# Altium schematic symbol library MSP430.SchLib: 3 symbols
Pins are listed as number, name and electrical type; pins without a type are passive.

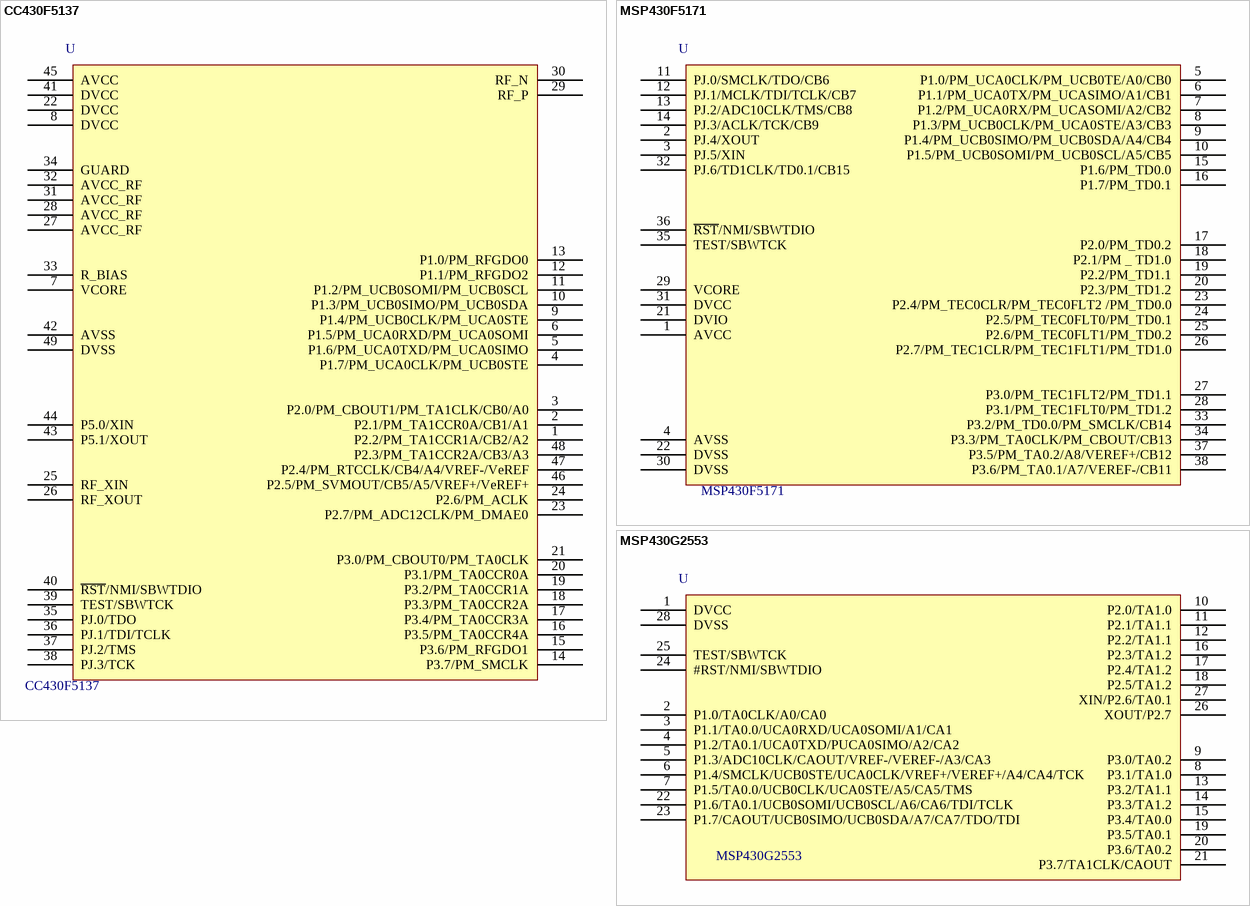
[diagram p0: symbols CC430F5137 to MSP430G2553]

## CC430F5137
designator U  value CC430F5137  (hidden comment: *)
Manufacturer Code: CC430F5137IRGZT; Manufacturer: Texas Instruments; Flash Size: 32KB; Ram Size: 4KB; CPU Speed: 20MHz; Unit Price: 5,23 €; Farnell Code: 2334526
footprint QFN-48 (Footprint not found)
pins: 1 P2.2/PM_TA1CCR1A/CB2/A2, 2 P2.1/PM_TA1CCR0A/CB1/A1, 3 P2.0/PM_CBOUT1/PM_TA1CLK/CB0/A0, 4 P1.7/PM_UCA0CLK/PM_UCB0STE, 5 P1.6/PM_UCA0TXD/PM_UCA0SIMO, 6 P1.5/PM_UCA0RXD/PM_UCA0SOMI, 7 VCORE, 8 DVCC, 9 P1.4/PM_UCB0CLK/PM_UCA0STE, 10 P1.3/PM_UCB0SIMO/PM_UCB0SDA, 11 P1.2/PM_UCB0SOMI/PM_UCB0SCL, 12 P1.1/PM_RFGDO2, 13 P1.0/PM_RFGDO0, 14 P3.7/PM_SMCLK, 15 P3.6/PM_RFGDO1, 16 P3.5/PM_TA0CCR4A, 17 P3.4/PM_TA0CCR3A, 18 P3.3/PM_TA0CCR2A, 19 P3.2/PM_TA0CCR1A, 20 P3.1/PM_TA0CCR0A, 21 P3.0/PM_CBOUT0/PM_TA0CLK, 22 DVCC, 23 P2.7/PM_ADC12CLK/PM_DMAE0, 24 P2.6/PM_ACLK, 25 RF_XIN, 26 RF_XOUT, 27 AVCC_RF, 28 AVCC_RF, 29 RF_P, 30 RF_N, 31 AVCC_RF, 32 AVCC_RF, 33 R_BIAS, 34 GUARD, 35 PJ.0/TDO, 36 PJ.1/TDI/TCLK, 37 PJ.2/TMS, 38 PJ.3/TCK, 39 TEST/SBWTCK, 40 ~{RST}/NMI/SBWTDIO, 41 DVCC, 42 AVSS, 43 P5.1/XOUT, 44 P5.0/XIN, 45 AVCC, 46 P2.5/PM_SVMOUT/CB5/A5/VREF+/VeREF+, 47 P2.4/PM_RTCCLK/CB4/A4/VREF-/VeREF, 48 P2.3/PM_TA1CCR2A/CB3/A3, 49 DVSS

## MSP430F5171
designator U  value MSP430F5171  (hidden comment: *)
Manufacturer: Texas Instruments; Manufacturer Code: MSP430F5171IDAR; Program Memory: 32K; RAM Memory: 2K; Farnell Code: 2057045; Unit Price: 4,29 €
footprint TSSOP38
pins: 1 AVCC, 2 PJ.4/XOUT, 3 PJ.5/XIN, 4 AVSS, 5 P1.0/PM_UCA0CLK/PM_UCB0TE/A0/CB0, 6 P1.1/PM_UCA0TX/PM_UCASIMO/A1/CB1, 7 P1.2/PM_UCA0RX/PM_UCASOMI/A2/CB2, 8 P1.3/PM_UCB0CLK/PM_UCA0STE/A3/CB3, 9 P1.4/PM_UCB0SIMO/PM_UCB0SDA/A4/CB4, 10 P1.5/PM_UCB0SOMI/PM_UCB0SCL/A5/CB5, 11 PJ.0/SMCLK/TDO/CB6, 12 PJ.1/MCLK/TDI/TCLK/CB7, 13 PJ.2/ADC10CLK/TMS/CB8, 14 PJ.3/ACLK/TCK/CB9, 15 P1.6/PM_TD0.0, 16 P1.7/PM_TD0.1, 17 P2.0/PM_TD0.2, 18 P2.1/PM _ TD1.0, 19 P2.2/PM_TD1.1, 20 P2.3/PM_TD1.2, 21 DVIO, 22 DVSS, 23 P2.4/PM_TEC0CLR/PM_TEC0FLT2 /PM_TD0.0, 24 P2.5/PM_TEC0FLT0/PM_TD0.1, 25 P2.6/PM_TEC0FLT1/PM_TD0.2, 26 P2.7/PM_TEC1CLR/PM_TEC1FLT1/PM_TD1.0, 27 P3.0/PM_TEC1FLT2/PM_TD1.1, 28 P3.1/PM_TEC1FLT0/PM_TD1.2, 29 VCORE, 30 DVSS, 31 DVCC, 32 PJ.6/TD1CLK/TD0.1/CB15, 33 P3.2/PM_TD0.0/PM_SMCLK/CB14, 34 P3.3/PM_TA0CLK/PM_CBOUT/CB13, 35 TEST/SBWTCK, 36 ~{RST}/NMI/SBWTDIO, 37 P3.5/PM_TA0.2/A8/VEREF+/CB12, 38 P3.6/PM_TA0.1/A7/VEREF-/CB11

## MSP430G2553
designator U  value MSP430G2553  (hidden comment: *)
Manufacturer: Texas Instruments
footprint TSSOP28
footprint TSSOP20
pins: 1 DVCC, 2 P1.0/TA0CLK/A0/CA0, 3 P1.1/TA0.0/UCA0RXD/UCA0SOMI/A1/CA1, 4 P1.2/TA0.1/UCA0TXD/PUCA0SIMO/A2/CA2, 5 P1.3/ADC10CLK/CAOUT/VREF-/VEREF-/A3/CA3, 6 P1.4/SMCLK/UCB0STE/UCA0CLK/VREF+/VEREF+/A4/CA4/TCK, 7 P1.5/TA0.0/UCB0CLK/UCA0STE/A5/CA5/TMS, 8 P3.1/TA1.0, 9 P3.0/TA0.2, 10 P2.0/TA1.0, 11 P2.1/TA1.1, 12 P2.2/TA1.1, 13 P3.2/TA1.1, 14 P3.3/TA1.2, 15 P3.4/TA0.0, 16 P2.3/TA1.2, 17 P2.4/TA1.2, 18 P2.5/TA1.2, 19 P3.5/TA0.1, 20 P3.6/TA0.2, 21 P3.7/TA1CLK/CAOUT, 22 P1.6/TA0.1/UCB0SOMI/UCB0SCL/A6/CA6/TDI/TCLK, 23 P1.7/CAOUT/UCB0SIMO/UCB0SDA/A7/CA7/TDO/TDI, 24 #RST/NMI/SBWTDIO, 25 TEST/SBWTCK, 26 XOUT/P2.7, 27 XIN/P2.6/TA0.1, 28 DVSS